# Altium schematic symbol library Debug_connector.SchLib: 1 symbol
Pins are listed as number, name and electrical type; pins without a type are passive.

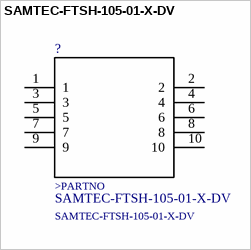
[diagram p0: symbol SAMTEC-FTSH-105-01-X-DV]

## SAMTEC-FTSH-105-01-X-DV
designator ?
Conn Unshrouded Header HDR 10 POS 1.27mm Solder ST SMD Automotive T/R; MF: Samtec; MP: FTSH-105-01-F-DV-K-TR; Price: None; Package: None; SnapEDA_Link: https://www.snapeda.com/parts/FTSH-105-01-F-DV-K-TR/Samtec%20Inc./view-part/?ref=snap; Availability: Unavailable; Value: *
footprint SAMTEC-FTSH-105-01-X-DV
pins: 1, 2, 3, 4, 5, 6, 7, 8, 9, 10
text: >PARTNO